# EAGLE library part LTC3535 (library jmolterLib)
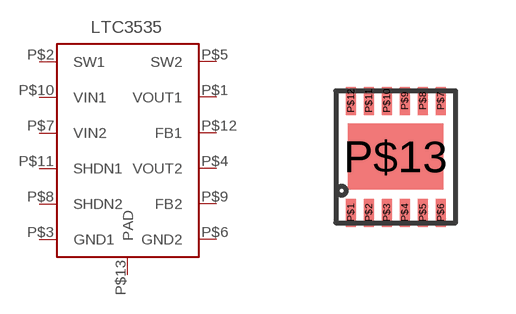
[diagram p2: symbol with the pads of 12DFN; footprint 12DFN]

Designator prefix -

## LTC3535  [12DFN]
P$1  VOUT1
P$2  SW1
P$3  GND1
P$4  VOUT2
P$5  SW2
P$6  GND2
P$7  VIN2
P$8  SHDN2
P$9  FB2
P$10  VIN1
P$11  SHDN1
P$12  FB1
P$13  PAD

## Footprint 12DFN (pad centres in mm)
12 Lead DFN package
smd 0.25 x 0.7: P$1 0.125,0.35; P$2 0.575,0.35; P$3 1.025,0.35; P$4 1.475,0.35; P$5 1.925,0.35; P$6 2.375,0.35; P$7 2.375,3.15; P$8 1.925,3.15; P$9 1.475,3.15; P$10 1.025,3.15; P$11 0.575,3.15; P$12 0.125,3.15
smd 2.38 x 1.65: P$13 1.25,1.753